# Altium schematic symbol library coba.SchLib: 21 symbols
Pins are listed as number, name and electrical type; pins without a type are passive.

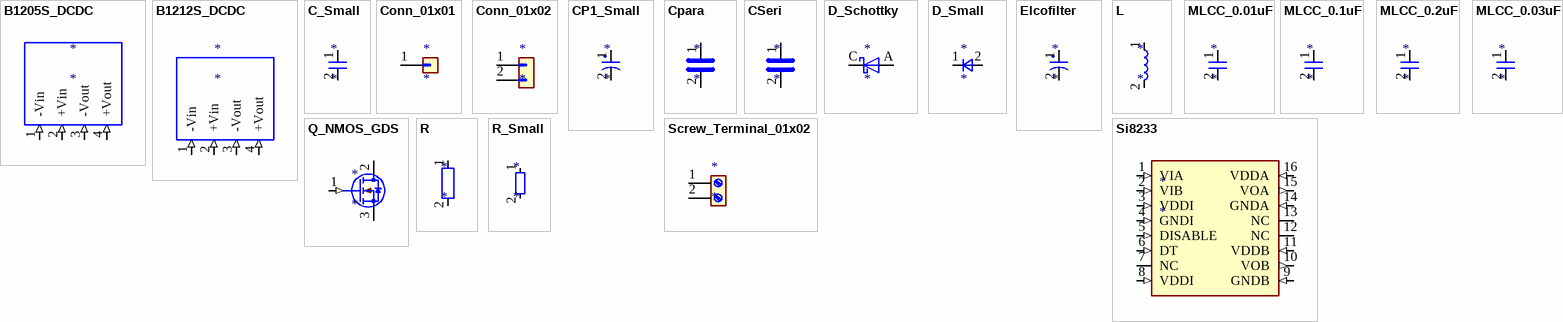
[diagram p0: symbols B1205S_DCDC to Si8233]

## B1205S_DCDC
designator *
footprint DCDC5V
pins: 1 -Vin (in), 2 +Vin (in), 3 -Vout (in), 4 +Vout (in)

## B1212S_DCDC
designator *
footprint DCDC5V
pins: 1 -Vin (in), 2 +Vin (in), 3 -Vout (in), 4 +Vout (in)

## C_Small
designator *
footprint 1206
pins: 1, 2

## Conn_01x01
designator *
footprint PinHeader_1x01_P2.54mm_Vertical
pins: 1 Pin_1

## Conn_01x02
designator *
footprint PinHeader_1x02_P2.54mm_Vertical
pins: 1 Pin_1, 2 Pin_2

## CP1_Small
designator *
footprint CP_Radial_D5.0mm_P2.50mm
pins: 1, 2

## Cpara
designator *
footprint LCCpara
pins: 1, 2

## CSeri
designator *
footprint LCCseri
pins: 1, 2

## D_Schottky
designator *
footprint Schottky
pins: A, C K

## D_Small
designator *
footprint DIO_LL4148
pins: 1 K, 2 A

## Elcofilter
designator *
footprint C820uf25V
pins: 1, 2

## L
designator *
footprint Inductor
pins: 1, 2

## MLCC_0.01uF
designator *
footprint MLCC1825_0.01uF
pins: 1, 2

## MLCC_0.1uF
designator *
footprint MLCC1206_0.1uF
pins: 1, 2

## MLCC_0.2uF
designator *
footprint MLCC2220_0.2uF
pins: 1, 2

## MLCC_0.03uF
designator *
footprint MLCC1812_0.03uF
pins: 1, 2

## Q_NMOS_GDS
designator *
footprint MOSFET
pins: 1 G (in), 2 D, 3 S

## R
designator *
footprint 1206
pins: 1, 2

## R_Small
designator *
footprint 1206
pins: 1, 2

## Screw_Terminal_01x02
designator *
footprint Terminal
pins: 1 Pin_1, 2 Pin_2

## Si8233
designator *
footprint Si8233
pins: 1 VIA (in), 2 VIB (in), 3 VDDI (in), 4 GNDI (in), 5 DISABLE (in), 6 DT (in), 7 NC (io), 8 VDDI (in), 9 GNDB (in), 10 VOB (out), 11 VDDB (in), 12 NC (io), 13 NC (io), 14 GNDA (in), 15 VOA (out), 16 VDDA (in)